# EAGLE library part BMP388 (library TSat0-Library)
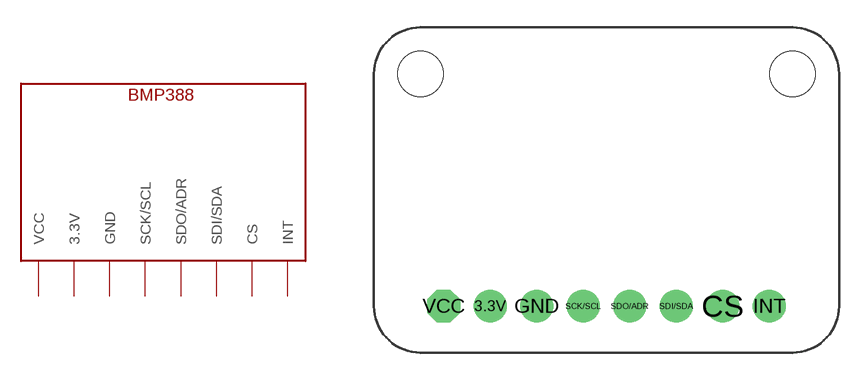
[diagram p1: symbol with the pads of BMP388-FP; footprint BMP388-FP]

Designator prefix -

## BMP388  [BMP388-FP]
3.3V  3.3V
CS  CS
GND  GND
INT  INT
SCK/SCL  SCK/SCL
SDI/SDA  SDI/SDA
SDO/ADR  SDO/ADR
VCC  VCC

## Footprint BMP388-FP (pad centres in mm)
drill 1 pad 1.778: 3.3V 6.35,2.54; CS 19.05,2.54; GND 8.89,2.54; INT 21.59,2.54; SCK/SCL 11.43,2.54; SDI/SDA 16.51,2.54; SDO/ADR 13.97,2.54
drill 1 pad 1.778 octagon: VCC 3.81,2.54
hole 2.5 at 22.86,15.24
hole 2.5 at 2.54,15.24